# EAGLE library part H_BRIDGE_IRF_9530 (library transistor-power)
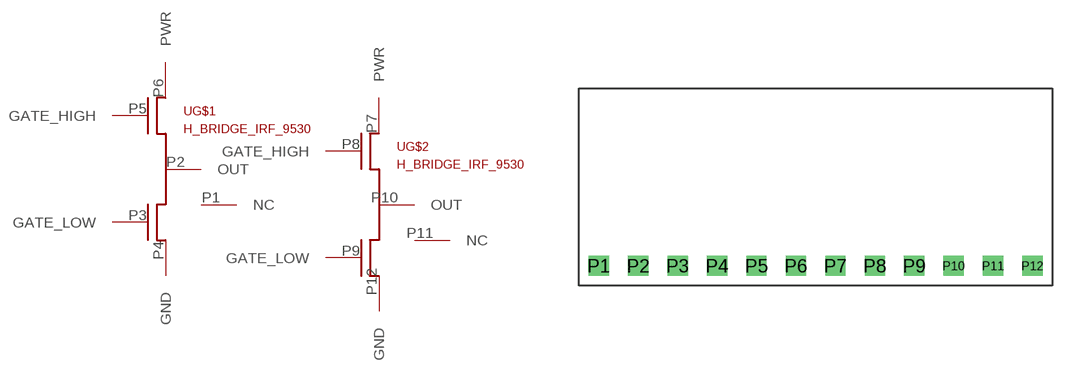
[diagram p8: symbol with the pads of PSEUDO_SIP12; footprint PSEUDO_SIP12]

Designator prefix -; gates G$1=H_BRIDGE_SYMBOL G$2=H_BRIDGE_SYMBOL

## H_BRIDGE_IRF_9530  [PSEUDO_SIP12]
P1  G$1:NC  nc
P2  G$1:OUT  out
P3  G$1:GATE_LOW  in
P4  G$1:GND  pwr
P5  G$1:GATE_HIGH  in
P6  G$1:PWR  pwr
P7  G$2:PWR  pwr
P8  G$2:GATE_HIGH  in
P9  G$2:GATE_LOW  in
P10  G$2:OUT  out
P11  G$2:NC  nc
P12  G$2:GND  pwr

## Footprint PSEUDO_SIP12 (pad centres in mm)
drill 0.8 square: P1 -15.24,0; P2 -12.7,0; P3 -10.16,0; P4 -7.62,0; P5 -5.08,0; P6 -2.54,0; P7 0,0; P8 2.54,0; P9 5.08,0; P10 7.62,0; P11 10.16,0; P12 12.7,0